# Altium footprint library SensorPCBPrototype2.PcbLib: 13 footprints
Each footprint in its own frame and in the unit in brackets; x right, y up, seen from the top. Pads: shape width x height; smd on the part's side, far side on the other; paste and mask are expansions set on the pad; w line width, h text height; cw(c..) or ccw(c..) is an arc to the next point about the centre after c.
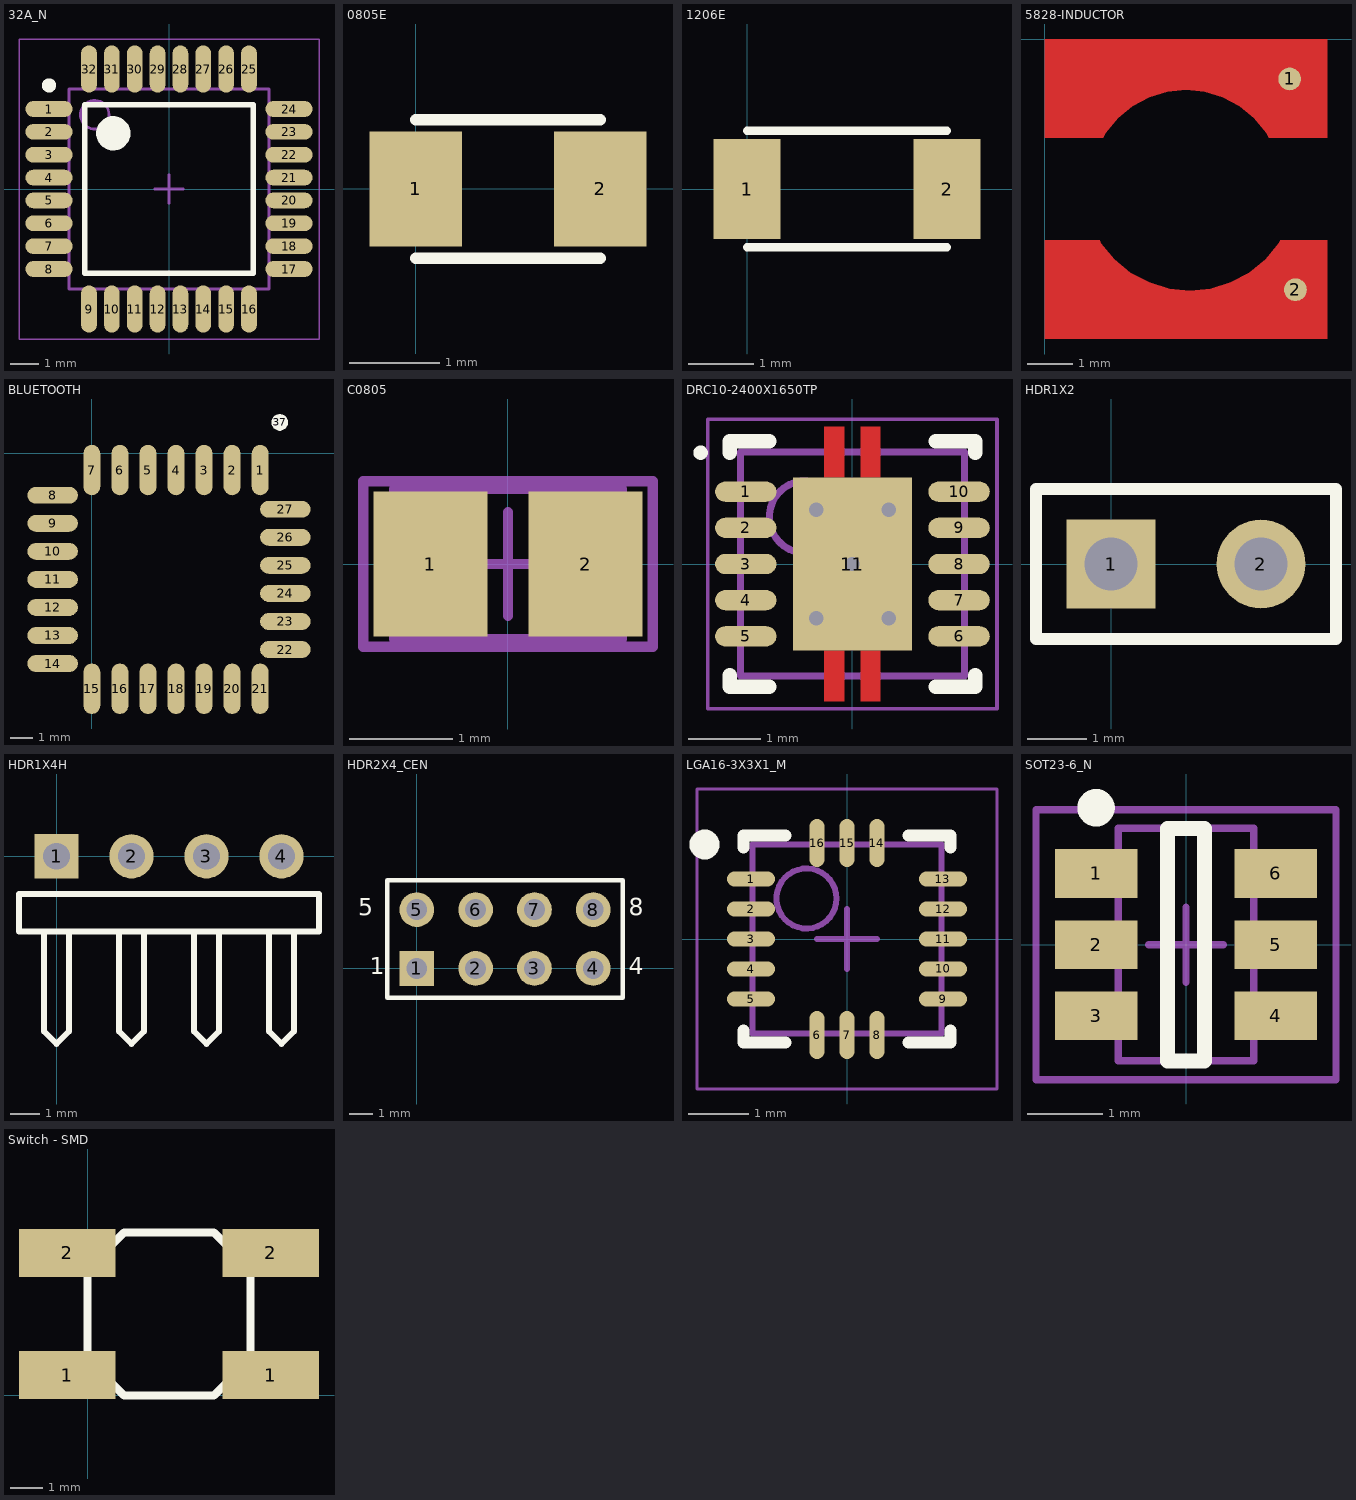
[diagram p0: the footprints below, top view; thin cyan lines are the x and y axes]

## 32A_N [mm] "Thin QFP, 32-Leads, Body 7x7mm, Pitch 0.8mm, IPC Medium Density"
height 1.2
pads (32):
  oval 1.65x0.55 smd: 1(-4.2,2.8) 2(-4.2,2) 3(-4.2,1.2) 4(-4.2,0.4) 5(-4.2,-0.4) 6(-4.2,-1.2) 7(-4.2,-2) 8(-4.2,-2.8) 17(4.2,-2.8) 18(4.2,-2) 19(4.2,-1.2) 20(4.2,-0.4) 21(4.2,0.4) 22(4.2,1.2) 23(4.2,2) 24(4.2,2.8)
  oval 0.55x1.65 smd: 9(-2.8,-4.2) 10(-2,-4.2) 11(-1.2,-4.2) 12(-0.4,-4.2) 13(0.4,-4.2) 14(1.2,-4.2) 15(2,-4.2) 16(2.8,-4.2) 25(2.8,4.2) 26(2,4.2) 27(1.2,4.2) 28(0.4,4.2) 29(-0.4,4.2) 30(-1.2,4.2) 31(-2,4.2) 32(-2.8,4.2)
Top Overlay:
  circle w0.25: c-4.2,3.625 r0.125
  circle w0.6: c-1.95,1.95 r0.3
  lines w0.2: -2.95,-2.95 -2.95,2.95 2.95,2.95 2.95,-2.95 -2.95,-2.95
Mechanical 13:
  circle w0.1: c-2.6,2.6 r0.5
  lines w0.1: -3.5,-3.5 -3.5,3.5 3.5,3.5 3.5,-3.5 -3.5,-3.5
Mechanical 15:
  lines w0.05: -5.25,-5.25 -5.25,5.25 5.25,5.25 5.25,-5.25 -5.25,-5.25
  lines w0.1: -0.5,0 0.5,0 ; 0,-0.5 0,0.5
3D body: height 1.2, standoff 0, extent -3.5,-3.5 3.5,3.5

## 0805E [mil]
height 47.24
pads (2):
  rect 40x50 smd: 1(0,0) 2(80,0)
Top Overlay:
  lines w5: 0,-30 80,-30 ; 0,30 80,30

## 1206E [mil]
pads (2):
  rect 40x60 smd: 1(0,0) 2(120,0)
Top Overlay:
  lines w5: 0,-35 120,-35 ; 0,35 120,35

## 5828-INDUCTOR [mil]
pads (2):
  round 20 smd: 1(215,-35) 2(220,-220)
Top Layer:
  region: 0,-86.61 0,0 248.03,0 248.03,-86.61 196.67,-86.58 194.3,-82.16 183.79,-69.35 170.98,-58.83 156.37,-51.02 140.51,-46.21 124.02,-44.59 107.52,-46.21 91.67,-51.02 77.05,-58.83 64.24,-69.35 53.73,-82.16 51.36,-86.58 51.42,-86.61
  region: 0,-263.23 0,-176.61 48.19,-176.74 49.4,-179.01 61.08,-193.24 75.31,-204.92 91.55,-213.6 109.17,-218.95 127.5,-220.75 145.82,-218.95 163.45,-213.6 179.69,-204.92 193.92,-193.24 205.6,-179.01 206.81,-176.74 206.61,-176.61 248.03,-176.61 248.03,-263.23

## BLUETOOTH [mil]
pads (28):
  oval 30x90 smd: 1(300,-30) 2(250,-30) 3(200,-30) 4(150,-30) 5(100,-30) 6(50,-30) 7(0,-30) 15(0,-420) 16(50,-420) 17(100,-420) 18(150,-420) 19(200,-420) 20(250,-420) 21(300,-420)
  oval 90x30 smd: 8(-70,-75) 9(-70,-125) 10(-70,-175) 11(-70,-225) 12(-70,-275) 13(-70,-325) 14(-70,-375) 22(345,-350) 23(345,-300) 24(345,-250) 25(345,-200) 26(345,-150) 27(345,-100)
  round 30 on Top Overlay: 37(335,55)

## C0805 [mm] "Chip Capacitor, Body 2.0x1.3mm, IPC High Density"
height 1.4
pads (2):
  rect 1.1x1.4 smd: 1(-0.75,0) 2(0.75,0)
Mechanical 13:
  lines w0.1: -1.1,-0.725 -1.1,0.725 1.1,0.725 1.1,-0.725 -1.1,-0.725
Mechanical 15:
  lines w0.1: -0.5,0 0.5,0 ; 0,-0.5 0,0.5 ; -1.4,-0.8 -1.4,0.8 1.4,0.8 1.4,-0.8 -1.4,-0.8
3D body: height 1.4, standoff 0, extent -1.1,-0.725 1.1,0.725

## DRC10-2400X1650TP [mm] "SON, 10-Leads, Body 3x3mm, Pitch 0.5mm, Thermal Pad 2.4x1.65mm, TI Recommended"
height 1
pads (11):
  oval 0.85x0.28 smd paste-0.025 mask+0.07: 1(-1.475,1) 2(-1.475,0.5) 3(-1.475,0) 4(-1.475,-0.5) 5(-1.475,-1) 6(1.475,-1) 7(1.475,-0.5) 8(1.475,0) 9(1.475,0.5) 10(1.475,1)
  rect 1.65x2.4 smd paste-0.825 mask+0.07: 11(0,0)
via 0,0 diameter 0.5 hole 0.2
via 0.5,0.75 diameter 0.5 hole 0.2
via -0.5,0.75 diameter 0.5 hole 0.2
via -0.5,-0.75 diameter 0.5 hole 0.2
via 0.5,-0.75 diameter 0.5 hole 0.2
Top Layer:
  rectangle: -0.39,1.2 -0.11,1.9
  region: 0.39,1.9 0.11,1.9 0.11,1.2 0.39,1.2
  region: 0.39,-1.2 0.11,-1.2 0.11,-1.9 0.39,-1.9
  rectangle: -0.39,-1.9 -0.11,-1.2
Top Overlay:
  circle w0.1: c-2.1,1.54 r0.05
  lines w0.2: -1.7,-1.54 -1.7,-1.7 -1.15,-1.7 ; -1.7,1.54 -1.7,1.7 -1.15,1.7 ; 1.15,-1.7 1.7,-1.7 1.7,-1.54 ; 1.15,1.7 1.7,1.7 1.7,1.54
Top Paste:
  rectangle: -0.79,0.11 -0.11,1.16
  rectangle: -0.38,1.38 -0.12,1.88
  region: 0.38,1.88 0.12,1.88 0.12,1.38 0.38,1.38
  region: 0.38,-1.38 0.12,-1.38 0.12,-1.88 0.38,-1.88
  rectangle: -0.38,-1.88 -0.12,-1.38
  region: 0.79,1.16 0.11,1.16 0.11,0.11 0.79,0.11
  region: 0.79,-0.11 0.11,-0.11 0.11,-1.16 0.79,-1.16
  rectangle: -0.79,-1.16 -0.11,-0.11
Mechanical 13:
  circle w0.1: c-0.65,0.65 r0.5
  lines w0.1: -1.55,-1.55 -1.55,1.55 1.55,1.55 1.55,-1.55 -1.55,-1.55
Mechanical 15:
  lines w0.05: -2,-2 -2,2 2,2 2,-2 -2,-2
3D body: height 1, standoff 0, extent -1.55,-1.55 1.55,1.55

## HDR1X2 [mm] "Connector; Header; 2 Position"
pads (2):
  rect 1.5x1.5 hole 0.9: 1(0,0)
  round 1.5 hole 0.9: 2(2.54,0)
Top Overlay:
  lines w0.2: -1.27,-1.27 3.81,-1.27 3.81,1.27 -1.27,1.27 -1.27,-1.27

## HDR1X4H [mm] "Connector; Header; 4 Position; Right Angle"
height 1.2
pads (4):
  rect 1.5x1.5 hole 0.9: 1(0,0)
  round 1.5 hole 0.9: 2(2.54,0) 3(5.08,0) 4(7.62,0)
Top Overlay:
  lines w0.2: -0.423,-2.54 -0.423,-5.927 0,-6.35 0.423,-5.927 0.423,-2.54 ; 2.117,-2.54 2.117,-5.927 2.54,-6.35 2.963,-5.927 2.963,-2.54 ; 4.657,-2.54 4.657,-5.927 5.08,-6.35 5.503,-5.927 5.503,-2.54 ; 7.197,-2.54 7.197,-5.927 7.62,-6.35 8.043,-5.927 8.043,-2.54 ; -1.27,-2.54 -1.27,-1.27 8.89,-1.27 8.89,-2.54 -1.27,-2.54

## HDR2X4_CEN [mm] "Connector; Header; 4x2 Position"
height 27.05
pads (8):
  rect 1.5x1.5 hole 0.9: 1(0,0)
  round 1.5 hole 0.9: 2(2.54,0) 3(5.08,0) 4(7.62,0) 5(0,2.54) 6(2.54,2.54) 7(5.08,2.54) 8(7.62,2.54)
Top Overlay:
  lines w0.2: -1.27,-1.27 -1.27,3.81 8.89,3.81 8.89,-1.27 -1.27,-1.27
  text "8" at 9.144,2.032 h1.27
  text "4" at 9.144,-0.508 h1.27
  text "1" at -2.032,-0.508 h1.27
  text "5" at -2.54,2.032 h1.27

## LGA16-3X3X1_M [mm] "PQFN, 16-Leads, Body 3x3mm, Pitch 0.5mm, IPC Low Density"
height 1
pads (16):
  oval 0.8x0.25 smd: 1(-1.6,1) 2(-1.6,0.5) 3(-1.6,0) 4(-1.6,-0.5) 5(-1.6,-1) 9(1.6,-1) 10(1.6,-0.5) 11(1.6,0) 12(1.6,0.5) 13(1.6,1)
  oval 0.25x0.8 smd: 6(-0.5,-1.6) 7(0,-1.6) 8(0.5,-1.6) 14(0.5,1.6) 15(0,1.6) 16(-0.5,1.6)
Top Overlay:
  circle w0.25: c-2.375,1.575 r0.125
  lines w0.2: -1.725,-1.525 -1.725,-1.725 -1.025,-1.725 ; -1.725,1.525 -1.725,1.725 -1.025,1.725 ; 1.025,-1.725 1.725,-1.725 1.725,-1.525 ; 1.025,1.725 1.725,1.725 1.725,1.525
Mechanical 13:
  circle w0.1: c-0.675,0.675 r0.5
  lines w0.1: -1.575,-1.575 -1.575,1.575 1.575,1.575 1.575,-1.575 -1.575,-1.575
Mechanical 15:
  lines w0.05: -2.5,-2.5 -2.5,2.5 2.5,2.5 2.5,-2.5 -2.5,-2.5
  lines w0.1: -0.5,0 0.5,0 ; 0,-0.5 0,0.5
3D body: height 1, standoff 0, extent -1.575,-1.575 1.575,1.575

## SOT23-6_N [mm] "SOT23, 6-Leads, Body 2.9x1.6mm, Pitch 0.95mm, Lead Span 2.7mm, IPC Medium Density"
height 1.45
pads (6):
  rect 1.1x0.65 smd: 1(-1.2,0.95) 2(-1.2,0) 3(-1.2,-0.95) 4(1.2,-0.95) 5(1.2,0) 6(1.2,0.95)
Top Overlay:
  circle w0.25: c-1.2,1.825 r0.125
  lines w0.2: -0.25,-1.55 0.25,-1.55 0.25,1.55 -0.25,1.55 -0.25,-1.55
Mechanical 13:
  lines w0.1: -0.9,-1.55 -0.9,1.55 0.9,1.55 0.9,-1.55 -0.9,-1.55
Mechanical 15:
  lines w0.1: -0.5,0 0.5,0 ; 0,-0.5 0,0.5 ; -2,-1.8 -2,1.8 2,1.8 2,-1.8 -2,-1.8
3D body: height 1.45, standoff 0, extent -0.9,-1.55 0.9,1.55

## Switch - SMD [mm]
pads (4):
  rect 3x1.5 smd: 1(-0.635,0.635) 1(5.715,0.635) 2(-0.635,4.445) 2(5.715,4.445)
Top Overlay:
  lines w0.254: 0,1.143 1.143,0 3.937,0 5.08,1.143 5.08,3.937 3.937,5.08 1.143,5.08 0,3.937 0,1.143